# Altium footprint library elco_kecil.PcbLib: 1 footprints
Each footprint in its own frame and in the unit in brackets; x right, y up, seen from the top. Pads: shape width x height; smd on the part's side, far side on the other; paste and mask are expansions set on the pad; w line width, h text height; cw(c..) or ccw(c..) is an arc to the next point about the centre after c.
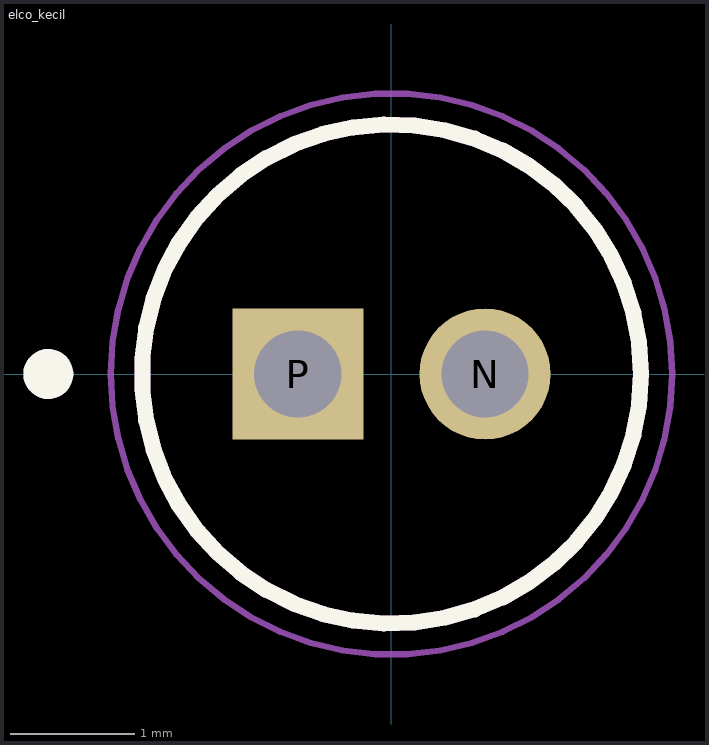
[diagram p0: the footprint, top view; thin cyan lines are the x and y axes]

## elco_kecil [mm]
pads (2):
  round 1.05 hole 0.7: N(0.75,0)
  rect 1.05x1.05 hole 0.7: P(-0.75,0)
Top Overlay:
  circle w0.2: c-2.75,0 r0.1
  circle w0.127: c0,0 r2
Mechanical 13:
  circle w0.2: c-2.75,0 r0.1
  circle w0.127: c0,0 r2
Mechanical 15:
  circle w0.05: c0,0 r2.25
3D body "step_temp.STEP": height 7, standoff -17, extent -2,-1.999 2,1.999